# Altium schematic symbol library Parts.SchLib: 55 symbols
Pins are listed as number, name and electrical type; pins without a type are passive.

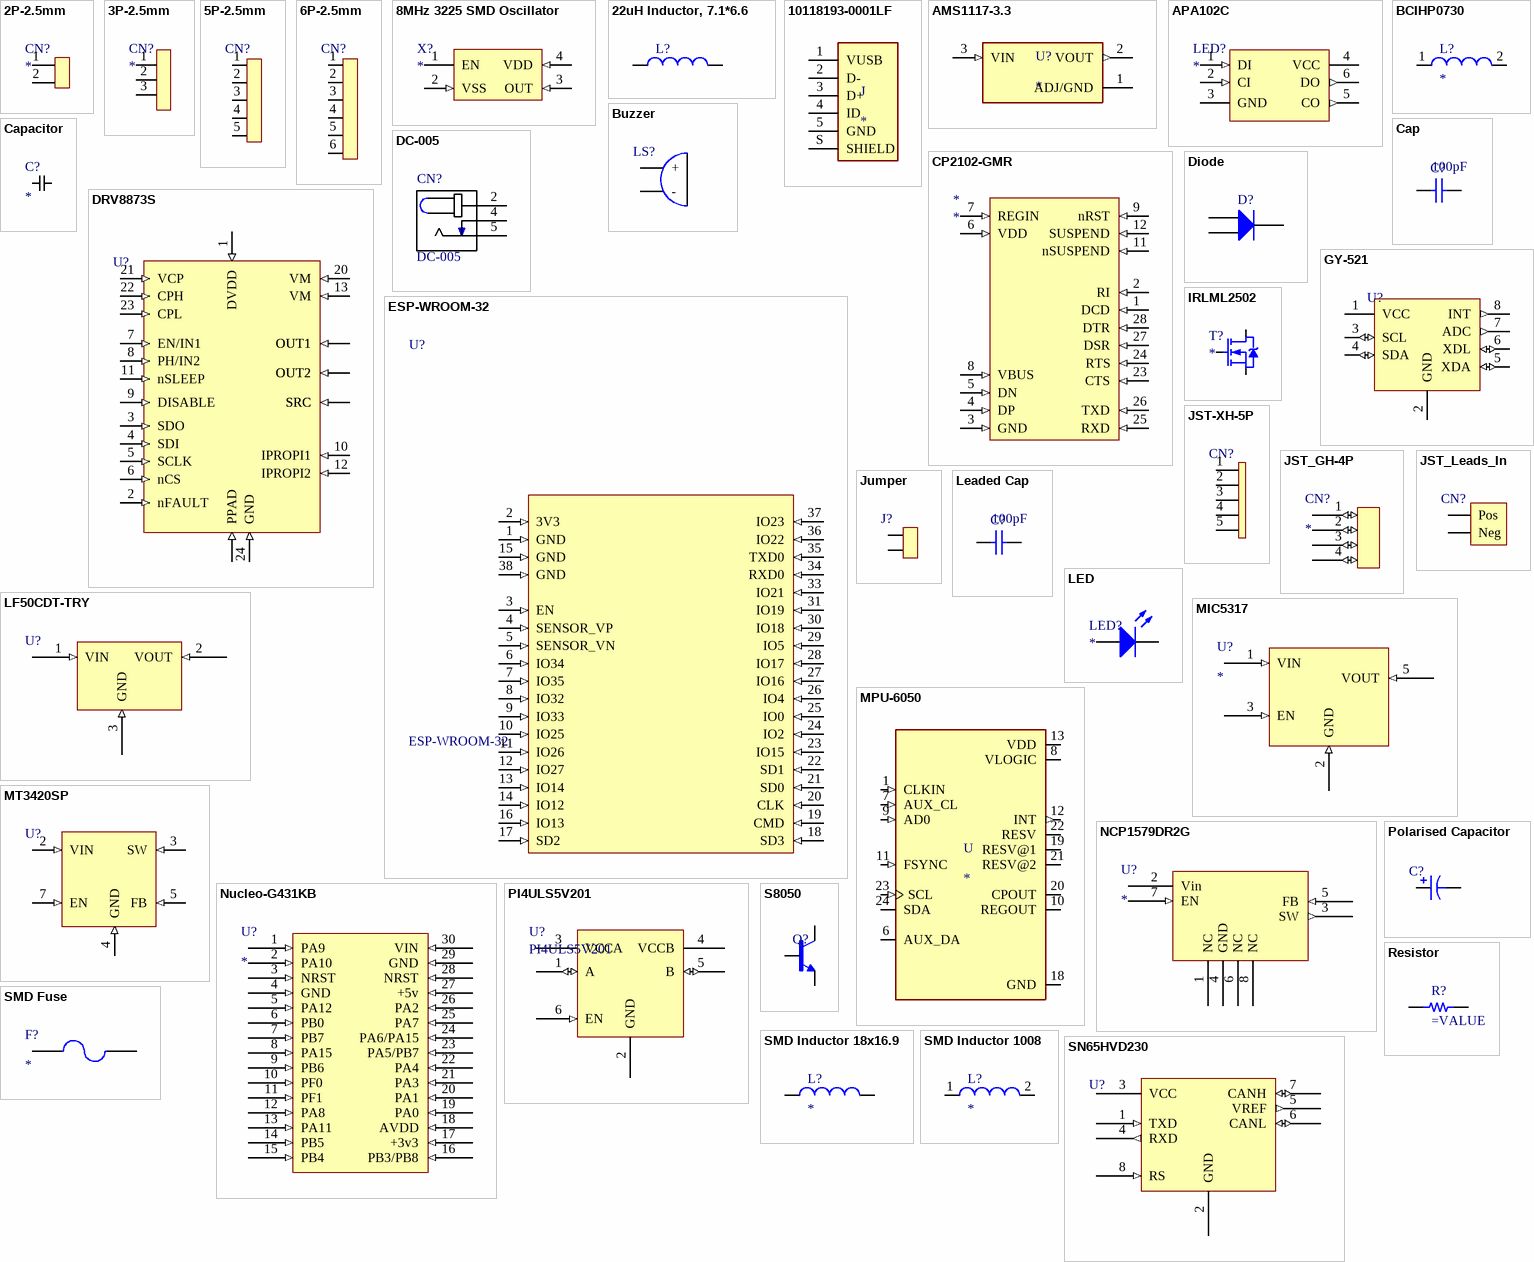
[diagram p0: symbols 2P-2.5mm to SN65HVD230]

## 2P-2.5mm
designator CN?
footprint 2.5mm-2P
pins: 1, 2

## 3P-2.5mm
designator CN?
footprint 2.5mm-3P
pins: 1, 2, 3

## 5P-2.5mm
designator CN?  (value not drawn)
footprint 5-Pin-Header
pins: 1, 2, 3, 4, 5

## 6P-2.5mm
designator CN?  (value not drawn)
footprint 6-Pin-Header
pins: 1, 2, 3, 4, 5, 6

## 8MHz 3225 SMD Oscillator
designator X?
footprint 3.2x2.5 SMD
pins: 1 EN, 2 VSS (in), 3 OUT (in), 4 VDD (in)

## 22uH Inductor, 7.1*6.6
designator L?  (value not drawn)
footprint 71x66-Inductor
pins: 1, 2

## 10118193-0001LF
designator J
USB - micro B USB 2.0 Receptacle Connector 5 Position Surface Mount, Right Angle; Through Hole; MP: 10118193-0001LF; MF: Amphenol ICC; Availability: Unavailable; SnapEDA_Link: https://www.snapeda.com/parts/10118193-0001LF/Amphenol%20FCI/view-part/2758989/?ref=snap; Price: None; Value: *; Package: None
footprint FCI_10118193-0001LF
pins: 1 VUSB, 2 D-, 3 D+, 4 ID, 5 GND, S SHIELD

## AMS1117-3.3
designator U?
Sot223/Pkg 1-Amp 3.3-Volt Low Drop Out Voltage Regulatator; MP: AMS1117-3.3; MF: Advanced Monolithic Systems; Price: None; Package: None; Value: *; Availability: Unavailable; SnapEDA_Link: https://www.snapeda.com/parts/AMS1117-3.3/Advanced%20Monolithic%20Systems/view-part/53450/?ref=snap
footprint SOT229P700X180-4N
pins: 1 ADJ/GND (power), 2 VOUT (out), 3 VIN (in)

## APA102C
designator LED?
footprint 5x5_WS2812
pins: 1 DI (in), 2 CI (in), 3 GND (power), 4 VCC (power), 5 CO (out), 6 DO (out)

## BCIHP0730
designator L?
footprint 7x7
pins: 1, 2

## Buzzer
designator LS?  (value not drawn)
footprint 12-dia-buzzer
pins: A +, K -

## Cap
designator C?  value 100pF
Published: 8-Jun-2000; LatestRevisionDate: 17-Jul-2002; LatestRevisionNote: Re-released for DXP Platform.; PackageReference: RAD-0.3; Publisher: Altium Limited; PackageDescription: Radial Cap, Thru-Hole; 2 Leads; 0.3 in Pin Spacing
simulation model CAP (Capacitor)
signal-integrity model Cap
footprint 1206
footprint 0805 - duplicate (Chip Resistor, Body 2.0x1.2mm, IPC Medium Density)
footprint 0402
pins: 1, 2

## Capacitor
designator C?
footprint 0805
footprint 0805 - duplicate (Chip Resistor, Body 2.0x1.2mm, IPC Medium Density)
pins: 1 0, 2 1

## CP2102-GMR
designator *
footprint QFN28G_0.5-5X5MM
pins: 1 DCD (in), 2 RI (in), 3 GND (in), 4 DP (in), 5 DN (in), 6 VDD (in), 7 REGIN (in), 8 VBUS (in), 9 nRST (in), 11 nSUSPEND (in), 12 SUSPEND (in), 23 CTS (in), 24 RTS (in), 25 RXD (in), 26 TXD (in), 27 DSR (in), 28 DTR (in)

## DC-005
designator CN?
MF: Best Inc.; SnapEDA_Link: https://www.snapeda.com/parts/DC-005/Best%20Inc./view-part/?ref=snap; Package: None; MP: DC-005; Price: None; Availability: Unavailable; Value: *
footprint NINIGI_DC-005
pins: 2, 4, 5

## Diode
designator D?
Published: 8-Jun-2000; LatestRevisionDate: 17-Jul-2002; LatestRevisionNote: Re-released for DXP Platform.; PackageVersion: Sep-1996; PackageReference: SMC; Publisher: Altium Limited; PackageDescription: DO-214-AB/SMC; 2 C-Bend Leads; Body 7.9 x 5.9 mm, inc. leads (LxW); Code_JEDEC: DO-214-AB
simulation model DIODE (Diode)
signal-integrity model Diode
footprint PowerDi5
pins: 1 A, 2 A, 3 K

## DRV8873S
designator U?
footprint HTSSOP24
pins: 1 DVDD (in), 2 nFAULT (in), 3 SDO (in), 4 SDI (in), 5 SCLK (in), 6 nCS (in), 7 EN/IN1 (in), 8 PH/IN2 (in), 9 DISABLE (in), 10 IPROPI1 (in), 11 nSLEEP (in), 12 IPROPI2 (in), 13 VM (in), 14 OUT2 (in), 15 OUT2 (in), 16 SRC (in), 17 SRC (in), 18 OUT1 (in), 19 OUT1 (in), 20 VM (in), 21 VCP (in), 22 CPH (in), 23 CPL (in), 24 GND (in), THERM PPAD (in)

## ESP-WROOM-32
designator U?
WiFi 802.11b/g/n/d/e/i Transceiver Module 2.4GHz Surface Mount; MF: Olimex LTD; SnapEDA_Link: https://www.snapeda.com/parts/ESP-WROOM-32/Olimex%20LTD/view-part/2311927/?ref=snap; Package: Module Olimex LTD; MP: ESP-WROOM-32; Availability: Unavailable; Price: None; Value: *
footprint ESP-WROOM-32
pins: 1 GND (in), 2 3V3 (in), 3 EN (in), 4 SENSOR_VP (in), 5 SENSOR_VN (in), 6 IO34 (in), 7 IO35 (in), 8 IO32 (in), 9 IO33 (in), 10 IO25 (in), 11 IO26 (in), 12 IO27 (in), 13 IO14 (in), 14 IO12 (in), 15 GND (in), 16 IO13 (in), 17 SD2 (in), 18 SD3 (in), 19 CMD (in), 20 CLK (in), 21 SD0 (in), 22 SD1 (in), 23 IO15 (in), 24 IO2 (in), 25 IO0 (in), 26 IO4 (in), 27 IO16 (in), 28 IO17 (in), 29 IO5 (in), 30 IO18 (in), 31 IO19 (in), 33 IO21 (in), 34 RXD0 (in), 35 TXD0 (in), 36 IO22 (in), 37 IO23 (in), 38 GND (in)

## GY-521
designator U?
footprint GY-521
pins: 1 VCC (power), 2 GND (power), 3 SCL (io), 4 SDA (io), 5 XDA (io), 6 XDL (io), 7 ADC (out), 8 INT (out)

## IRLML2502
designator T?
footprint SOT23-FET
pins: 1 G, 2 S, 3 D

## JST-XH-5P
designator CN?  (value not drawn)
footprint JST-XH-5P
pins: 1, 2, 3, 4, 5

## JST_GH-4P
designator CN?
footprint JST_GH-4P
pins: 1 (io), 2 (io), 3 (io), 4 (io)

## JST_Leads_In
designator CN?
footprint Power_Leads
pins: A Pos, K Neg

## Jumper
designator J?
footprint Jumper
pins: 1, 2

## Leaded Cap
designator C?  value 100pF
Published: 8-Jun-2000; LatestRevisionDate: 17-Jul-2002; LatestRevisionNote: Re-released for DXP Platform.; PackageReference: RAD-0.3; Publisher: Altium Limited; PackageDescription: Radial Cap, Thru-Hole; 2 Leads; 0.3 in Pin Spacing
simulation model CAP (Capacitor)
signal-integrity model Cap
footprint RAD-0.1 (Radial Cap, Thru-Hole; 2 Leads; 0.1 in Pin Spacing)
pins: 1, 2

## LED
designator LED?
footprint 0805-LED
pins: 1 A, 2 K

## LF50CDT-TRY
designator U?
footprint DPAK-LF50
pins: 1 VIN (in), 2 VOUT (in), 3 GND (in)

## MIC5317
designator U?
footprint SOT23
pins: 1 VIN (in), 2 GND (in), 3 EN (in), 5 VOUT (in)

## MPU-6050
designator U
Accelerometer, Gyroscope, 6 Axis Sensor IÂ²C Output; MF: TDK InvenSense; Price: None; Package: VFQFN-24 TDK InvenSense; MP: MPU-6050; Value: *; Availability: Unavailable; SnapEDA_Link: https://www.snapeda.com/parts/MPU-6050/TDK%20InvenSense/view-part/4503180/?ref=snap
footprint QFN50P400X400X95-24N
pins: 1 CLKIN (in), 6 AUX_DA (io), 7 AUX_CL (in), 8 VLOGIC (power), 9 AD0 (in), 10 REGOUT, 11 FSYNC (in), 12 INT (out), 13 VDD (power), 18 GND (power), 19 RESV@1, 20 CPOUT, 21 RESV@2, 22 RESV, 23 SCL (in), 24 SDA (io)

## MT3420SP
designator U?  (value not drawn)
footprint SOP8-MT3420
pins: 2 VIN (in), 3 SW (in), 4 GND (in), 5 FB (in), 7 EN (in)

## NCP1579DR2G
designator U?
footprint SOP8-Buck
pins: 1 NC, 2 Vin (power), 3 SW (out), 4 GND (power), 5 FB (in), 6 NC, 7 EN (in), 8 NC

## Nucleo-G431KB
designator U?
footprint nucleo
pins: 1 PA9 (in), 2 PA10 (in), 3 NRST (in), 4 GND (in), 5 PA12 (in), 6 PB0 (in), 7 PB7 (in), 8 PA15 (in), 9 PB6 (in), 10 PF0 (in), 11 PF1 (in), 12 PA8 (in), 13 PA11 (in), 14 PB5 (in), 15 PB4 (in), 16 PB3/PB8 (in), 17 +3v3 (in), 18 AVDD (in), 19 PA0 (in), 20 PA1 (in), 21 PA3 (in), 22 PA4 (in), 23 PA5/PB7 (in), 24 PA6/PA15 (in), 25 PA7 (in), 26 PA2 (in), 27 +5v (in), 28 NRST (in), 29 GND (in), 30 VIN (in)

## PI4ULS5V201
designator U?
Level Translator
footprint SOT23-PI4ULS5V201
pins: 1 A (io), 2 GND (power), 3 VCCA (power), 4 VCCB (power), 5 B (io), 6 EN (in)

## Polarised Capacitor
designator C?  (value not drawn)
footprint 10x12mm-Electrolytic
footprint 8x10.2 Cap
pins: 1, 2

## Resistor
designator R?
footprint 0805 - duplicate (Chip Resistor, Body 2.0x1.2mm, IPC Medium Density)
footprint 2010_SMD_Resistor
pins: 1, 2

## S8050
designator Q?  (value not drawn)
MF: MICROSS/On Semiconductor; MP: 2N2222; Value: *; Package: TO-18-3 NJS; Digi-Key_Purchase_URL: https://www.digikey.com.mx/product-detail/en/microsemi-corporation/JANS2N2222A/1086-15156-ND/4384334?utm_source=snapeda&utm_medium=aggregator&utm_campaign=symbol; SnapEDA_Link: https://www.snapeda.com/parts/2N2222/MICROSS/On%20Semiconductor/view-part/561967/?ref=snap; Digi-Key_Part_Number: 1086-15156-ND
footprint SOT23-FET
pins: 1 B, 2 E, 3 C

## SMD Fuse
designator F?
footprint 1206
pins: 1, 2

## SMD Inductor 18x16.9
designator L?
TMPC1707
footprint 18x16-9-Inductor
pins: 1, 2

## SMD Inductor 1008
designator L?
footprint 1008 Inductor
pins: 1, 2

## SN65HVD230
designator U?
CAN Transceiver
footprint SOIC8-TI_CAN
pins: 1 TXD (in), 2 GND (power), 3 VCC (power), 4 RXD (out), 5 VREF (out), 6 CANL (io), 7 CANH (io), 8 RS (in)

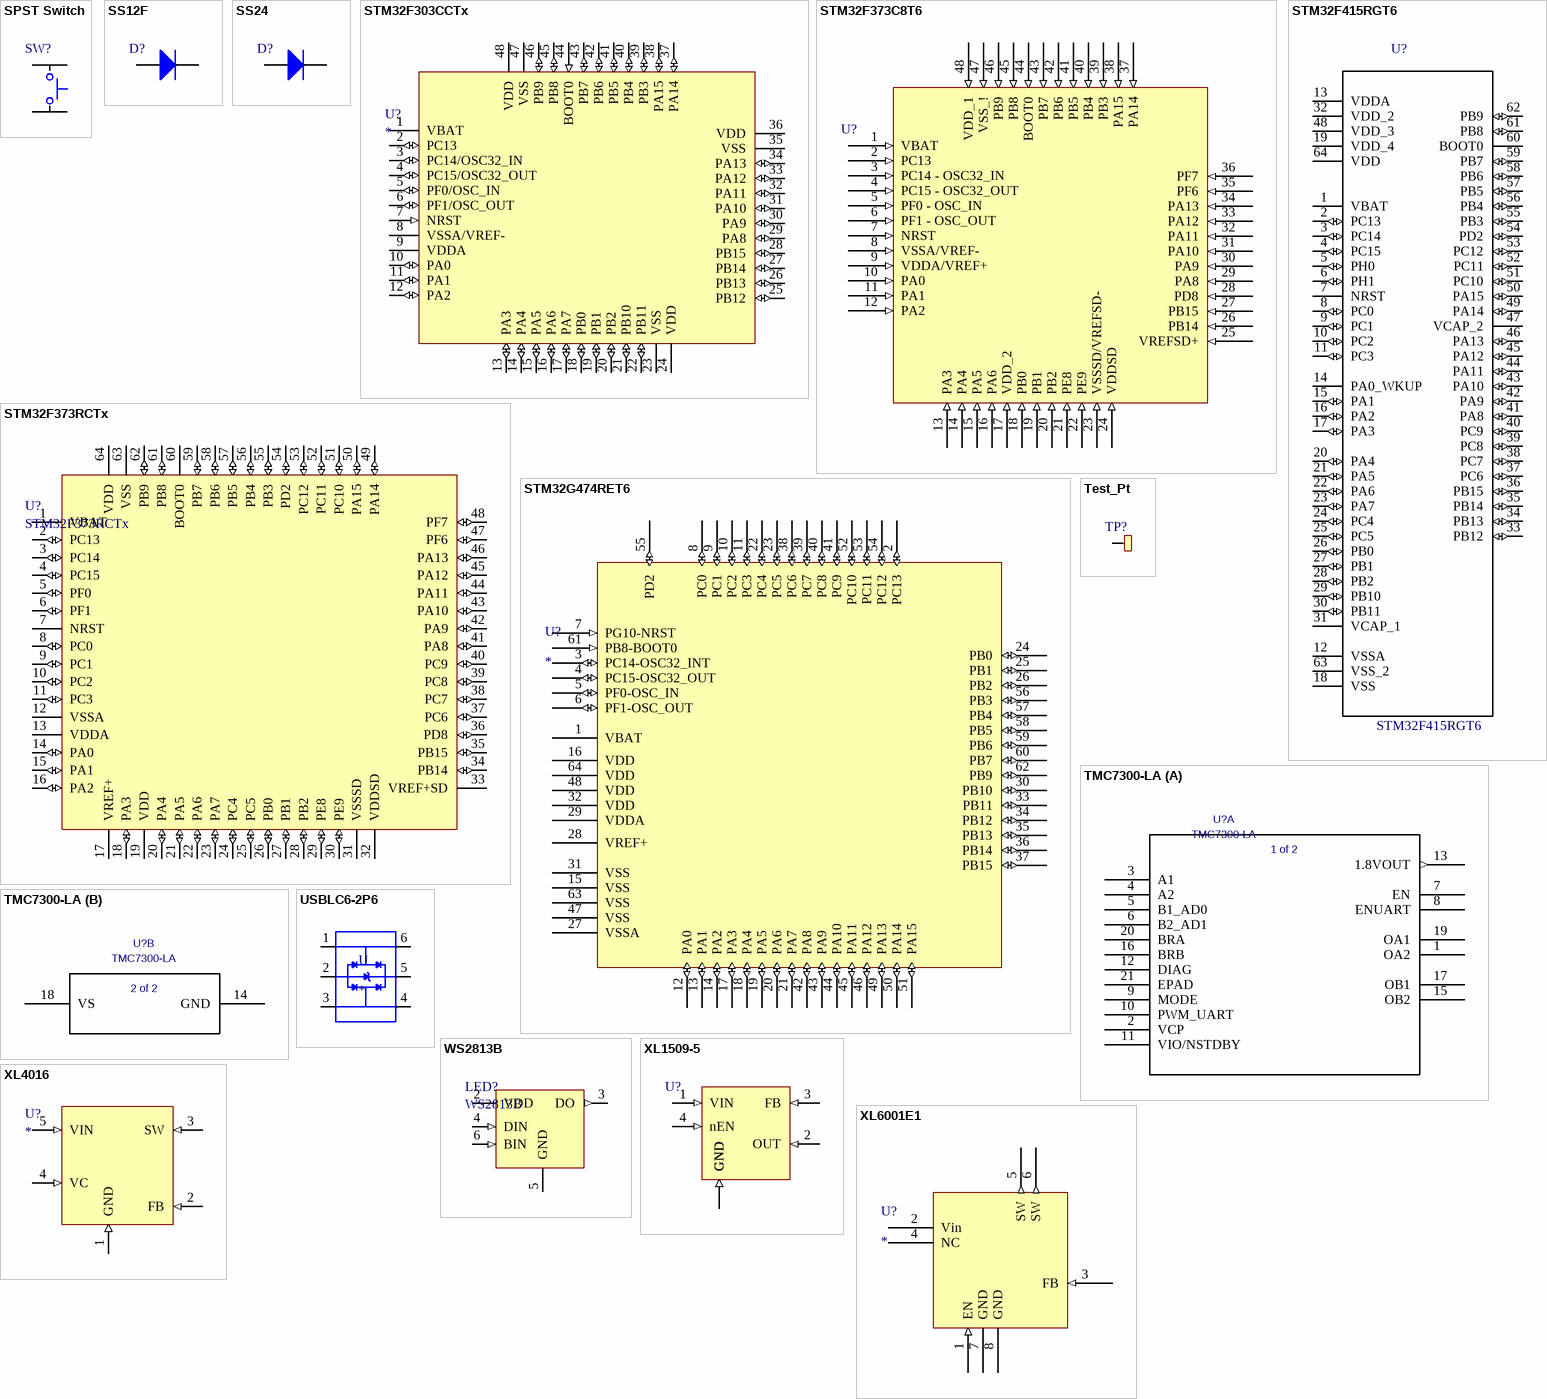
[diagram p1: symbols SPST Switch to XL6001E1]

## SPST Switch
designator SW?  (value not drawn)
footprint 4.8x4.8-SMD-SWITCH
pins: 1, 2, 3, 4 1

## SS12F
designator D?  (value not drawn)
footprint SMAF_DIODE
pins: A, K

## SS24
designator D?  (value not drawn)
2A Schottky Diode
footprint DO-214AA
pins: A, K

## STM32F303CCTx
designator U?
footprint LQFP48
pins: 1 VBAT (power), 2 PC13 (io), 3 PC14/OSC32_IN (io), 4 PC15/OSC32_OUT (io), 5 PF0/OSC_IN (io), 6 PF1/OSC_OUT (io), 7 NRST (in), 8 VSSA/VREF- (power), 9 VDDA (power), 10 PA0 (io), 11 PA1 (io), 12 PA2 (io), 13 PA3 (io), 14 PA4 (io), 15 PA5 (io), 16 PA6 (io), 17 PA7 (io), 18 PB0 (io), 19 PB1 (io), 20 PB2 (io), 21 PB10 (io), 22 PB11 (io), 23 VSS (power), 24 VDD (power), 25 PB12 (io), 26 PB13 (io), 27 PB14 (io), 28 PB15 (io), 29 PA8 (io), 30 PA9 (io), 31 PA10 (io), 32 PA11 (io), 33 PA12 (io), 34 PA13 (io), 35 VSS (power), 36 VDD (power), 37 PA14 (io), 38 PA15 (io), 39 PB3 (io), 40 PB4 (io), 41 PB5 (io), 42 PB6 (io), 43 PB7 (io), 44 BOOT0 (in), 45 PB8 (io), 46 PB9 (io), 47 VSS (power), 48 VDD (power)

## STM32F373C8T6
designator U?
footprint LQFP48
pins: 1 VBAT (in), 2 PC13 (in), 3 PC14 - OSC32_IN (in), 4 PC15 - OSC32_OUT (in), 5 PF0 - OSC_IN (in), 6 PF1 - OSC_OUT (in), 7 NRST (in), 8 VSSA/VREF- (in), 9 VDDA/VREF+ (in), 10 PA0 (in), 11 PA1 (in), 12 PA2 (in), 13 PA3 (in), 14 PA4 (in), 15 PA5 (in), 16 PA6 (in), 17 VDD_2 (in), 18 PB0 (in), 19 PB1 (in), 20 PB2 (in), 21 PE8 (in), 22 PE9 (in), 23 VSSSD/VREFSD- (in), 24 VDDSD (in), 25 VREFSD+ (in), 26 PB14 (in), 27 PB15 (in), 28 PD8 (in), 29 PA8 (in), 30 PA9 (in), 31 PA10 (in), 32 PA11 (in), 33 PA12 (in), 34 PA13 (in), 35 PF6 (in), 36 PF7 (in), 37 PA14 (in), 38 PA15 (in), 39 PB3 (in), 40 PB4 (in), 41 PB5 (in), 42 PB6 (in), 43 PB7 (in), 44 BOOT0 (in), 45 PB8 (in), 46 PB9 (in), 47 VSS_! (in), 48 VDD_1 (in)

## STM32F373RCTx
designator U?
footprint LQFP64
pins: 1 VBAT (power), 2 PC13 (io), 3 PC14 (io), 4 PC15 (io), 5 PF0 (io), 6 PF1 (io), 7 NRST, 8 PC0 (io), 9 PC1 (io), 10 PC2 (io), 11 PC3 (io), 12 VSSA (power), 13 VDDA (power), 14 PA0 (io), 15 PA1 (io), 16 PA2 (io), 17 VREF+ (power), 18 PA3 (io), 19 VDD (power), 20 PA4 (io), 21 PA5 (io), 22 PA6 (io), 23 PA7 (io), 24 PC4 (io), 25 PC5 (io), 26 PB0 (io), 27 PB1 (io), 28 PB2 (io), 29 PE8 (io), 30 PE9 (io), 31 VSSSD (power), 32 VDDSD (power), 33 VREF+SD (power), 34 PB14 (io), 35 PB15 (io), 36 PD8 (io), 37 PC6 (io), 38 PC7 (io), 39 PC8 (io), 40 PC9 (io), 41 PA8 (io), 42 PA9 (io), 43 PA10 (io), 44 PA11 (io), 45 PA12 (io), 46 PA13 (io), 47 PF6 (io), 48 PF7 (io), 49 PA14 (io), 50 PA15 (io), 51 PC10 (io), 52 PC11 (io), 53 PC12 (io), 54 PD2 (io), 55 PB3 (io), 56 PB4 (io), 57 PB5 (io), 58 PB6 (io), 59 PB7 (io), 60 BOOT0, 61 PB8 (io), 62 PB9 (io), 63 VSS (power), 64 VDD (power)

## STM32F415RGT6
designator U?
MCU 32-bit STM32F ARM Cortex M4F RISC 1024KB Flash 2.5V/3.3V 64-Pin LQFP Tray; MF: STMicroelectronics; MP: STM32F415RGT6; Price: None; Package: LQFP-64 STMicroelectronics; Availability: Unavailable; SnapEDA_Link: https://www.snapeda.com/parts/STM32F415RGT6/STMicroelectronics/view-part/?ref=snap; Value: *
footprint LQFP64
pins: 1 VBAT, 2 PC13 (io), 3 PC14 (io), 4 PC15 (io), 5 PH0 (io), 6 PH1 (io), 7 NRST, 8 PC0 (io), 9 PC1 (io), 10 PC2 (io), 11 PC3 (io), 12 VSSA (power), 13 VDDA (power), 14 PA0_WKUP, 15 PA1 (io), 16 PA2 (io), 17 PA3 (io), 18 VSS (power), 19 VDD_4 (power), 20 PA4 (io), 21 PA5 (io), 22 PA6 (io), 23 PA7 (io), 24 PC4 (io), 25 PC5 (io), 26 PB0 (io), 27 PB1 (io), 28 PB2 (io), 29 PB10 (io), 30 PB11 (io), 31 VCAP_1, 32 VDD_2 (power), 33 PB12 (io), 34 PB13 (io), 35 PB14 (io), 36 PB15 (io), 37 PC6 (io), 38 PC7 (io), 39 PC8 (io), 40 PC9 (io), 41 PA8 (io), 42 PA9 (io), 43 PA10 (io), 44 PA11 (io), 45 PA12 (io), 46 PA13 (io), 47 VCAP_2, 48 VDD_3 (power), 49 PA14 (io), 50 PA15 (io), 51 PC10 (io), 52 PC11 (io), 53 PC12 (io), 54 PD2 (io), 55 PB3 (io), 56 PB4 (io), 57 PB5 (io), 58 PB6 (io), 59 PB7 (io), 60 BOOT0, 61 PB8 (io), 62 PB9 (io), 63 VSS_2 (power), 64 VDD (power)

## STM32G474RET6
designator U?
footprint LQFP64-STM32
pins: 1 VBAT (power), 2 PC13 (io), 3 PC14-OSC32_INT (io), 4 PC15-OSC32_OUT (io), 5 PF0-OSC_IN (io), 6 PF1-OSC_OUT (io), 7 PG10-NRST (in), 8 PC0 (io), 9 PC1 (io), 10 PC2 (io), 11 PC3 (io), 12 PA0 (io), 13 PA1 (io), 14 PA2 (io), 15 VSS (power), 16 VDD (power), 17 PA3 (io), 18 PA4 (io), 19 PA5 (io), 20 PA6 (io), 21 PA7 (io), 22 PC4 (io), 23 PC5 (io), 24 PB0 (io), 25 PB1 (io), 26 PB2 (io), 27 VSSA (power), 28 VREF+ (power), 29 VDDA (power), 30 PB10 (io), 31 VSS (power), 32 VDD (power), 33 PB11 (io), 34 PB12 (io), 35 PB13 (io), 36 PB14 (io), 37 PB15 (io), 38 PC6 (io), 39 PC7 (io), 40 PC8 (io), 41 PC9 (io), 42 PA8 (io), 43 PA9 (io), 44 PA10 (io), 45 PA11 (io), 46 PA12 (io), 47 VSS (power), 48 VDD (power), 49 PA13 (io), 50 PA14 (io), 51 PA15 (io), 52 PC10 (io), 53 PC11 (io), 54 PC12 (io), 55 PD2 (io), 56 PB3 (io), 57 PB4 (io), 58 PB5 (io), 59 PB6 (io), 60 PB7 (io), 61 PB8-BOOT0 (in), 62 PB9 (io), 63 VSS (power), 64 VDD (power)

## Test_Pt
designator TP?  (value not drawn)
footprint TP
footprint TP_SMD
pins: 1

## TMC7300-LA
designator U?
Vendor: Trinamic; Value: TMC7300-LA; Copyright: Copyright (C) 2018 Accelerated Designs. All rights reserved; Manufacturer_Part_Number: TMC7300-LA
footprint QFN20_3X3
part A pins: 1 OA2, 2 VCP, 3 A1, 4 A2, 5 B1_AD0, 6 B2_AD1, 7 EN, 8 ENUART, 9 MODE, 10 PWM_UART, 11 VIO/NSTDBY, 12 DIAG, 13 1.8VOUT (out), 15 OB2, 16 BRB, 17 OB1, 19 OA1, 20 BRA, 21 EPAD
part B pins: 14 GND (power), 18 VS (power)
part A text: 1 of 2
part B text: 2 of 2

## USBLC6-2P6
designator U
17V Clamp 5A _8/20µs_ Ipp Tvs Diode Surface Mount SOT-666; MP: USBLC6-2P6; MF: STMicroelectronics; Value: *; SnapEDA_Link: https://www.snapeda.com/parts/USBLC6-2P6/STMicroelectronics/view-part/106846/?ref=snap; Availability: Unavailable; Price: None; Package: SOT-563 STMicroelectronics
footprint SOT50P160X60-6N
pins: 1 I/O1_1 (io), 2 GND (power), 3 I/O2_1 (io), 4 I/O2_2 (io), 5 VBUS (power), 6 I/O1_2 (io)

## WS2813B
designator LED?
RGB LED
footprint 5x5_WS2812
pins: 2 VDD (power), 3 DO (out), 4 DIN (in), 5 GND (power), 6 BIN (in)

## XL1509-5
designator U?  (value not drawn)
footprint SOP8-MT3420
pins: 1 VIN (in), 2 OUT (in), 3 FB (in), 4 nEN (in), 5 GND (in), 6 GND (in), 7 GND (in), 8 GND (in)

## XL4016
designator U?
8A Buck COnverter
footprint TO220-5L
pins: 1 GND (in), 2 FB (in), 3 SW (in), 4 VC (in), 5 VIN (in)

## XL6001E1
designator U?
footprint SOP8
pins: 1 EN (in), 2 Vin (power), 3 FB (in), 4 NC, 5 SW (out), 6 SW (out), 7 GND (power), 8 GND (power)